# Altium footprint library 接口.PCBLIB: 266 footprints (part 6 of 17)
Each footprint in its own frame and in the unit in brackets; x right, y up, seen from the top. Pads: shape width x height; smd on the part's side, far side on the other; paste and mask are expansions set on the pad; w line width, h text height; cw(c..) or ccw(c..) is an arc to the next point about the centre after c.
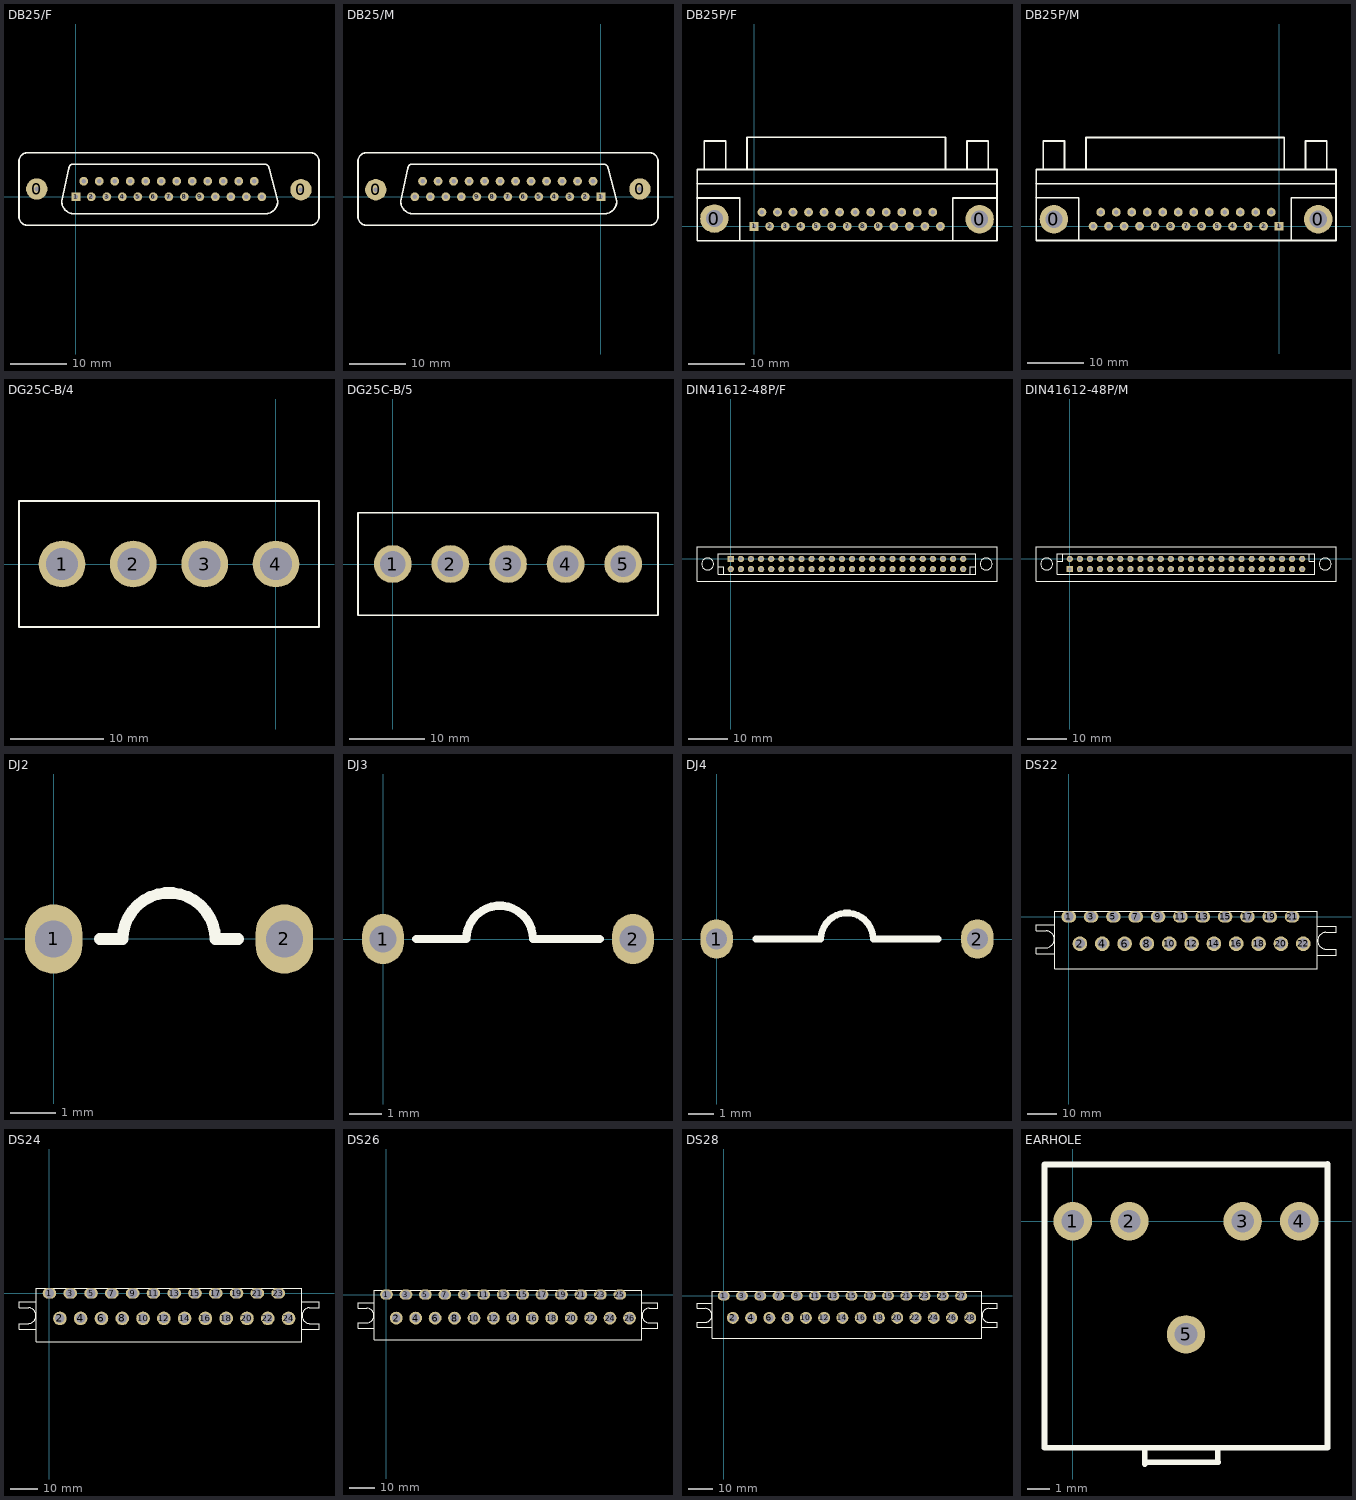
[diagram p5: the footprints below, top view; thin cyan lines are the x and y axes]

## DB25/F [mil]
pads (27):
  round 150 hole 32: 0(-275,55) 0(1583,50)
  rect 62x62 hole 32: 1(0,0)
  round 62 hole 32: 2(109,0) 3(218,0) 4(327,0) 5(436,0) 6(545,0) 7(654,0) 8(763,0) 9(872,0) 10(981,0) 11(1090,0) 12(1199,0) 13(1308,0) 14(55,110) 15(164,110) 16(273,110) 17(382,110) 18(491,110) 19(600,110) 20(709,110) 21(818,110) 22(927,110) 23(1036,110) 24(1145,110) 25(1254,110)
TopOverlay:
  lines w12: -50,200 -100,-30 ccw(c-10,-30) -10,-120 1330,-120 ccw(c1330,-30) 1420,-30 1360,200 ; -49,201 cw(c-20,201) -20,230 1330,230 ; 1330,229 cw(c1330,200) 1359,200 ; -400,-140 ccw(c-340,-140) -340,-200 1650,-200 ccw(c1650,-140) 1710,-140 1710,250 ccw(c1650,250) 1650,310 -340,310 ccw(c-340,250) -400,250 -400,-140

## DB25/M [mil]
pads (27):
  round 150 hole 32: 0(-1583,50) 0(275,55)
  rect 62x62 hole 32: 1(0,0)
  round 62 hole 32: 2(-109,0) 3(-218,0) 4(-327,0) 5(-436,0) 6(-545,0) 7(-654,0) 8(-763,0) 9(-872,0) 10(-981,0) 11(-1090,0) 12(-1199,0) 13(-1308,0) 14(-55,110) 15(-164,110) 16(-273,110) 17(-382,110) 18(-491,110) 19(-600,110) 20(-709,110) 21(-818,110) 22(-927,110) 23(-1036,110) 24(-1145,110) 25(-1254,110)
TopOverlay:
  lines w12: -1358,200 -1408,-30 ccw(c-1318,-30) -1318,-120 22,-120 ccw(c22,-30) 112,-30 52,200 ; -1357,201 cw(c-1328,201) -1328,230 22,230 ; 22,229 cw(c22,200) 51,200 ; -1708,-140 ccw(c-1648,-140) -1648,-200 342,-200 ccw(c342,-140) 402,-140 402,250 ccw(c342,250) 342,310 -1648,310 ccw(c-1648,250) -1708,250 -1708,-140

## DB25P/F [mil]
pads (27):
  round 200 hole 120: 0(-279,55) 0(1583,50)
  rect 62x62 hole 32: 1(0,0)
  round 62 hole 32: 2(109,0) 3(218,0) 4(327,0) 5(436,0) 6(545,0) 7(654,0) 8(763,0) 9(872,0) 10(981,0) 11(1090,0) 12(1199,0) 13(1308,0) 14(55,100) 15(164,100) 16(273,100) 17(382,100) 18(491,100) 19(600,100) 20(709,100) 21(818,100) 22(927,100) 23(1036,100) 24(1145,100) 25(1254,100)
TopOverlay:
  lines w12: -401,200 -100,200 -100,-100 ; -401,300 1705,300 ; -350,400 -350,600 -200,600 -200,400 ; -50,400 -50,625 1345,625 ; 1344,400 1344,625 ; 1394,-100 1394,200 1700,200 ; 1494,400 1494,600 1644,600 1644,400 ; -400,-100 1705,-100 1705,400 -400,400 -400,-100

## DB25P/M [mil]
pads (27):
  round 200 hole 120: 0(-1583,50) 0(275,50)
  rect 62x62 hole 32: 1(0,0)
  round 62 hole 32: 2(-109,0) 3(-218,0) 4(-327,0) 5(-436,0) 6(-545,0) 7(-654,0) 8(-763,0) 9(-872,0) 10(-981,0) 11(-1090,0) 12(-1199,0) 13(-1308,0) 14(-55,100) 15(-164,100) 16(-273,100) 17(-382,100) 18(-491,100) 19(-600,100) 20(-709,100) 21(-818,100) 22(-927,100) 23(-1036,100) 24(-1145,100) 25(-1254,100)
TopOverlay:
  lines w12: -1709,200 -1408,200 -1408,-100 ; -1709,300 400,300 ; -1658,400 -1658,600 -1508,600 -1508,400 ; -1358,400 -1358,625 37,625 ; 36,400 36,625 ; 86,-100 86,200 400,200 ; 186,400 186,600 336,600 336,400 ; -1708,-100 -1708,400 400,400 400,-100 -1708,-100

## DG25C-B/4 [mm]
pads (4):
  round 5 hole 3.4: 1(-22.86,0) 2(-15.24,0) 3(-7.62,0) 4(0,0)
TopOverlay:
  lines w0.203: -27.46,-6.75 4.6,-6.75 4.6,6.75 -27.46,6.75 -27.46,-6.75

## DG25C-B/5 [mm]
pads (5):
  round 5 hole 3.4: 1(0,0) 2(7.62,0) 3(15.24,0) 4(22.86,0) 5(30.48,0)
TopOverlay:
  lines w0.203: -4.6,-6.75 35.08,-6.75 35.08,6.75 -4.6,6.75 -4.6,-6.75

## DIN41612-48P/F [mil]
pads (48):
  rect 62x62 hole 35: A1(0,0)
  round 62 hole 35: A2(100,0) A3(200,0) A4(300,0) A5(400,0) A6(500,0) A7(600,0) A8(700,0) A9(800,0) A10(900,0) A11(1000,0) A12(1100,0) A13(1200,0) A14(1300,0) A15(1400,0) A16(1500,0) A17(1600,0) A18(1700,0) A19(1800,0) A20(1900,0) A21(2000,0) A22(2100,0) A23(2200,0) A24(2300,0) B1(0,-100) B2(100,-100) B3(200,-100) B4(300,-100) B5(400,-100) B6(500,-100) B7(600,-100) B8(700,-100) B9(800,-100) B10(900,-100) B11(1000,-100) B12(1100,-100) B13(1200,-100) B14(1300,-100) B15(1400,-100) B16(1500,-100) B17(1600,-100) B18(1700,-100) B19(1800,-100) B20(1900,-100) B21(2000,-100) B22(2100,-100) B23(2200,-100) B24(2300,-100)
TopOverlay:
  circle w10: c2528.35,-50 r59.06
  circle w10: c-228.35,-50 r59.06
  lines w10: -334.65,-220 -334.65,120 2634.65,120 2634.65,-220 -334.65,-220
  lines w12: -125.98,-75 -70,-75 -70,-150 ; 2370,-150 2370,-75 2425.98,-75 ; -125.98,-150 -125.98,50 2425.98,50 2425.98,-150 -125.98,-150

## DIN41612-48P/M [mil]
pads (48):
  rect 62x62 hole 35: A1(0,-100)
  round 62 hole 35: A2(100,-100) A3(200,-100) A4(300,-100) A5(400,-100) A6(500,-100) A7(600,-100) A8(700,-100) A9(800,-100) A10(900,-100) A11(1000,-100) A12(1100,-100) A13(1200,-100) A14(1300,-100) A15(1400,-100) A16(1500,-100) A17(1600,-100) A18(1700,-100) A19(1800,-100) A20(1900,-100) A21(2000,-100) A22(2100,-100) A23(2200,-100) A24(2300,-100) B1(0,0) B2(100,0) B3(200,0) B4(300,0) B5(400,0) B6(500,0) B7(600,0) B8(700,0) B9(800,0) B10(900,0) B11(1000,0) B12(1100,0) B13(1200,0) B14(1300,0) B15(1400,0) B16(1500,0) B17(1600,0) B18(1700,0) B19(1800,0) B20(1900,0) B21(2000,0) B22(2100,0) B23(2200,0) B24(2300,0)
TopOverlay:
  circle w10: c-228.35,-50 r59.06
  circle w10: c2528.35,-50 r59.06
  lines w10: -334.65,-220 2634.65,-220 2634.65,120 -334.65,120 -334.65,-220
  lines w12: -125.98,-25 -70,-25 -70,50 ; 2370,50 2370,-25 2425.98,-25 ; -125.98,-150 2425.98,-150 2425.98,50 -125.98,50 -125.98,-150

## DJ2 [mil]
pads (2):
  oval 50x60 hole 32: 1(0,0) 2(200,0)
TopOverlay:
  lines w10: 40,0 60,0 cw(c100,0) 140,0 160,0

## DJ3 [mil]
pads (2):
  oval 50x60 hole 32: 1(0,0) 2(300,0)
TopOverlay:
  lines w10: 40,0 100,0 cw(c140,0) 180,0 260,0

## DJ4 [mil]
pads (2):
  oval 50x60 hole 32: 1(0,0) 2(400,0)
TopOverlay:
  lines w10: 60,0 160,0 cw(c200,0) 240,0 340,0

## DS22 [mm]
pads (22):
  oval 5x4 hole 3.4: 1(0,0) 3(7.62,0) 5(15.24,0) 7(22.86,0) 9(30.48,0) 11(38.1,0) 13(45.72,0) 15(53.34,0) 17(60.96,0) 19(68.58,0) 21(76.2,0)
  round 5 hole 3.4: 2(3.81,-9.2) 4(11.43,-9.2) 6(19.05,-9.2) 8(26.67,-9.2) 10(34.29,-9.2) 12(41.91,-9.2) 14(49.53,-9.2) 16(57.15,-9.2) 18(64.77,-9.2) 20(72.39,-9.2) 22(80.01,-9.2)
TopOverlay:
  lines w0.203: -7.67,-2.7 -7.57,-2.7 ; -4.77,-12.7 -11.17,-12.7 -11.17,-10.6 -7.67,-10.6 ccw(c-7.87,-7.7) -7.67,-4.8 -11.17,-4.8 -11.17,-2.7 -4.77,-2.7 ; 84.78,-13.2 91.18,-13.2 91.18,-11.1 87.68,-11.1 cw(c87.88,-8.2) 87.68,-5.3 91.18,-5.3 91.18,-3.2 84.78,-3.2 ; 87.58,-13.2 87.68,-13.2 ; -4.77,-17.7 84.78,-17.7 84.78,1.8 -4.77,1.8 -4.77,-17.7

## DS24 [mm]
pads (24):
  oval 5x4 hole 3.4: 1(0,0) 3(7.62,0) 5(15.24,0) 7(22.86,0) 9(30.48,0) 11(38.1,0) 13(45.72,0) 15(53.34,0) 17(60.96,0) 19(68.58,0) 21(76.2,0) 23(83.82,0)
  round 5 hole 3.4: 2(3.81,-9.2) 4(11.43,-9.2) 6(19.05,-9.2) 8(26.67,-9.2) 10(34.29,-9.2) 12(41.91,-9.2) 14(49.53,-9.2) 16(57.15,-9.2) 18(64.77,-9.2) 20(72.39,-9.2) 22(80.01,-9.2) 24(87.63,-9.2)
TopOverlay:
  lines w0.203: -7.67,-3.2 -7.57,-3.2 ; -4.77,-13.2 -11.17,-13.2 -11.17,-11.1 -7.67,-11.1 ccw(c-7.87,-8.2) -7.67,-5.3 -11.17,-5.3 -11.17,-3.2 -4.77,-3.2 ; 92.4,-13.2 98.8,-13.2 98.8,-11.1 95.3,-11.1 cw(c95.5,-8.2) 95.3,-5.3 98.8,-5.3 98.8,-3.2 92.4,-3.2 ; 95.2,-13.2 95.3,-13.2 ; -4.77,-17.7 -4.77,1.8 92.4,1.8 92.4,-17.7 -4.77,-17.7

## DS26 [mm]
pads (26):
  oval 5x4 hole 3.4: 1(0,0) 3(7.62,0) 5(15.24,0) 7(22.86,0) 9(30.48,0) 11(38.1,0) 13(45.72,0) 15(53.34,0) 17(60.96,0) 19(68.58,0) 21(76.2,0) 23(83.82,0) 25(91.44,0)
  round 5 hole 3.4: 2(3.81,-9.2) 4(11.43,-9.2) 6(19.05,-9.2) 8(26.67,-9.2) 10(34.29,-9.2) 12(41.91,-9.2) 14(49.53,-9.2) 16(57.15,-9.2) 18(64.77,-9.2) 20(72.39,-9.2) 22(80.01,-9.2) 24(87.63,-9.2) 26(95.25,-9.2)
TopOverlay:
  lines w0.203: -7.67,-3.2 -7.57,-3.2 ; -4.77,-13.2 -11.17,-13.2 -11.17,-11.1 -7.67,-11.1 ccw(c-7.87,-8.2) -7.67,-5.3 -11.17,-5.3 -11.17,-3.2 -4.77,-3.2 ; 100.02,-13.2 106.42,-13.2 106.42,-11.1 102.92,-11.1 cw(c103.12,-8.2) 102.92,-5.3 106.42,-5.3 106.42,-3.2 100.02,-3.2 ; 102.82,-13.2 102.92,-13.2 ; -4.77,-17.7 100.02,-17.7 100.02,1.8 -4.77,1.8 -4.77,-17.7

## DS28 [mm]
pads (28):
  oval 5x4 hole 3.4: 1(0,0) 3(7.62,0) 5(15.24,0) 7(22.86,0) 9(30.48,0) 11(38.1,0) 13(45.72,0) 15(53.34,0) 17(60.96,0) 19(68.58,0) 21(76.2,0) 23(83.82,0) 25(91.44,0) 27(99.06,0)
  round 5 hole 3.4: 2(3.81,-9.2) 4(11.43,-9.2) 6(19.05,-9.2) 8(26.67,-9.2) 10(34.29,-9.2) 12(41.91,-9.2) 14(49.53,-9.2) 16(57.15,-9.2) 18(64.77,-9.2) 20(72.39,-9.2) 22(80.01,-9.2) 24(87.63,-9.2) 26(95.25,-9.2) 28(102.87,-9.2)
TopOverlay:
  lines w0.203: -7.67,-3.2 -7.57,-3.2 ; -4.77,-13.2 -11.17,-13.2 -11.17,-11.1 -7.67,-11.1 ccw(c-7.87,-8.2) -7.67,-5.3 -11.17,-5.3 -11.17,-3.2 -4.77,-3.2 ; 107.64,-13.2 114.04,-13.2 114.04,-11.1 110.54,-11.1 cw(c110.74,-8.2) 110.54,-5.3 114.04,-5.3 114.04,-3.2 107.64,-3.2 ; 110.44,-13.2 110.54,-13.2 ; -4.77,-17.7 -4.77,1.8 107.64,1.8 107.64,-17.7 -4.77,-17.7

## EARHOLE [mil]
pads (5):
  round 68 hole 40: 1(0,0) 2(100,0) 3(300,0) 4(400,0) 5(200,-200)
TopOverlay:
  lines w10: 127,-400 127,-429 130,-426 257,-426 256,-425 256,-400 ; -50,-400 450,-400 450,101 449,100 200,100 -50,100 -50,-400